# Altium footprint library KEMET.PcbLib: 4 footprints
Each footprint in its own frame and in the unit in brackets; x right, y up, seen from the top. Pads: shape width x height; smd on the part's side, far side on the other; paste and mask are expansions set on the pad; w line width, h text height; cw(c..) or ccw(c..) is an arc to the next point about the centre after c.
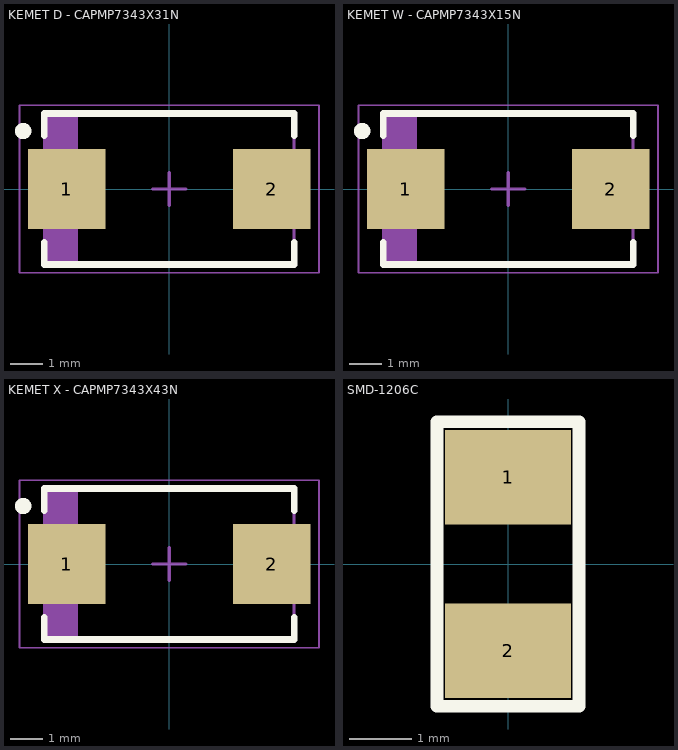
[diagram p0: the footprints below, top view; thin cyan lines are the x and y axes]

## KEMET D - CAPMP7343X31N [mm] "Molded Capacitor, 2-Leads, Body 7.30x4.30mm, IPC Medium Density"
height 3.1
pads (2):
  rect 2.37x2.43 smd: 1(-3.12,0) 2(3.12,0)
Top Overlay:
  circle w0.25: c-4.45,1.765 r0.125
  lines w0.2: -3.8,-1.615 -3.8,-2.3 3.8,-2.3 3.8,-1.615 ; -3.8,1.615 -3.8,2.3 3.8,2.3 3.8,1.615
3D Top:
  rectangle: -3.8,-2.3 -2.778,2.3
  lines w0.1: -3.8,-2.3 3.8,-2.3 3.8,2.3 -3.8,2.3 -3.8,-2.3
Courtyard Top:
  lines w0.05: -4.56,-2.55 4.56,-2.55 4.56,2.55 -4.56,2.55 -4.56,-2.55
  lines w0.1: -0.5,0 0.5,0 ; 0,-0.5 0,0.5
3D body "KEMET D - CAPMP7343X31N.step": height 3.1, standoff 0, extent -4.02,-2.3 4.02,2.3

## KEMET W - CAPMP7343X15N [mm] "Molded Capacitor, 2-Leads, Body 7.30x4.30mm, IPC Medium Density"
height 1.5
pads (2):
  rect 2.37x2.43 smd: 1(-3.12,0) 2(3.12,0)
Top Overlay:
  circle w0.25: c-4.45,1.765 r0.125
  lines w0.2: -3.8,-1.615 -3.8,-2.3 3.8,-2.3 3.8,-1.615 ; -3.8,1.615 -3.8,2.3 3.8,2.3 3.8,1.615
3D Top:
  rectangle: -3.8,-2.3 -2.778,2.3
  lines w0.1: -3.8,-2.3 3.8,-2.3 3.8,2.3 -3.8,2.3 -3.8,-2.3
Courtyard Top:
  lines w0.05: -4.56,-2.55 4.56,-2.55 4.56,2.55 -4.56,2.55 -4.56,-2.55
  lines w0.1: -0.5,0 0.5,0 ; 0,-0.5 0,0.5
3D body "KEMET W - CAPMP7343X15N.step": height 1.5, standoff 0, extent -4.02,-2.3 4.02,2.3

## KEMET X - CAPMP7343X43N [mm] "Molded Capacitor, 2-Leads, Body 7.30x4.30mm, IPC Medium Density"
height 4.3
pads (2):
  rect 2.37x2.43 smd: 1(-3.12,0) 2(3.12,0)
Top Overlay:
  circle w0.25: c-4.45,1.765 r0.125
  lines w0.2: -3.8,-1.615 -3.8,-2.3 3.8,-2.3 3.8,-1.615 ; -3.8,1.615 -3.8,2.3 3.8,2.3 3.8,1.615
3D Top:
  rectangle: -3.8,-2.3 -2.778,2.3
  lines w0.1: -3.8,-2.3 -3.8,2.3 3.8,2.3 3.8,-2.3 -3.8,-2.3
Courtyard Top:
  lines w0.05: -4.56,-2.55 -4.56,2.55 4.56,2.55 4.56,-2.55 -4.56,-2.55
  lines w0.1: -0.5,0 0.5,0 ; 0,-0.5 0,0.5
3D body "KEMET X - CAPMP7343X43N.step": height 4.3, standoff 0, extent -4.02,-2.3 4.02,2.3

## SMD-1206C [mil]
pads (2):
  rect 80x60 smd: 1(0,55) 2(0,-55)
Top Overlay:
  lines w8: -45,-90 45,-90 45,90 -45,90 -45,-90
3D body "capacitor 1206.step": height 39.37, standoff 0, extent -31.49,-62.99 31.5,63